# Altium footprint library PCB库2.PcbLib: 108 footprints (part 2 of 7)
Each footprint in its own frame and in the unit in brackets; x right, y up, seen from the top. Pads: shape width x height; smd on the part's side, far side on the other; paste and mask are expansions set on the pad; w line width, h text height; cw(c..) or ccw(c..) is an arc to the next point about the centre after c.
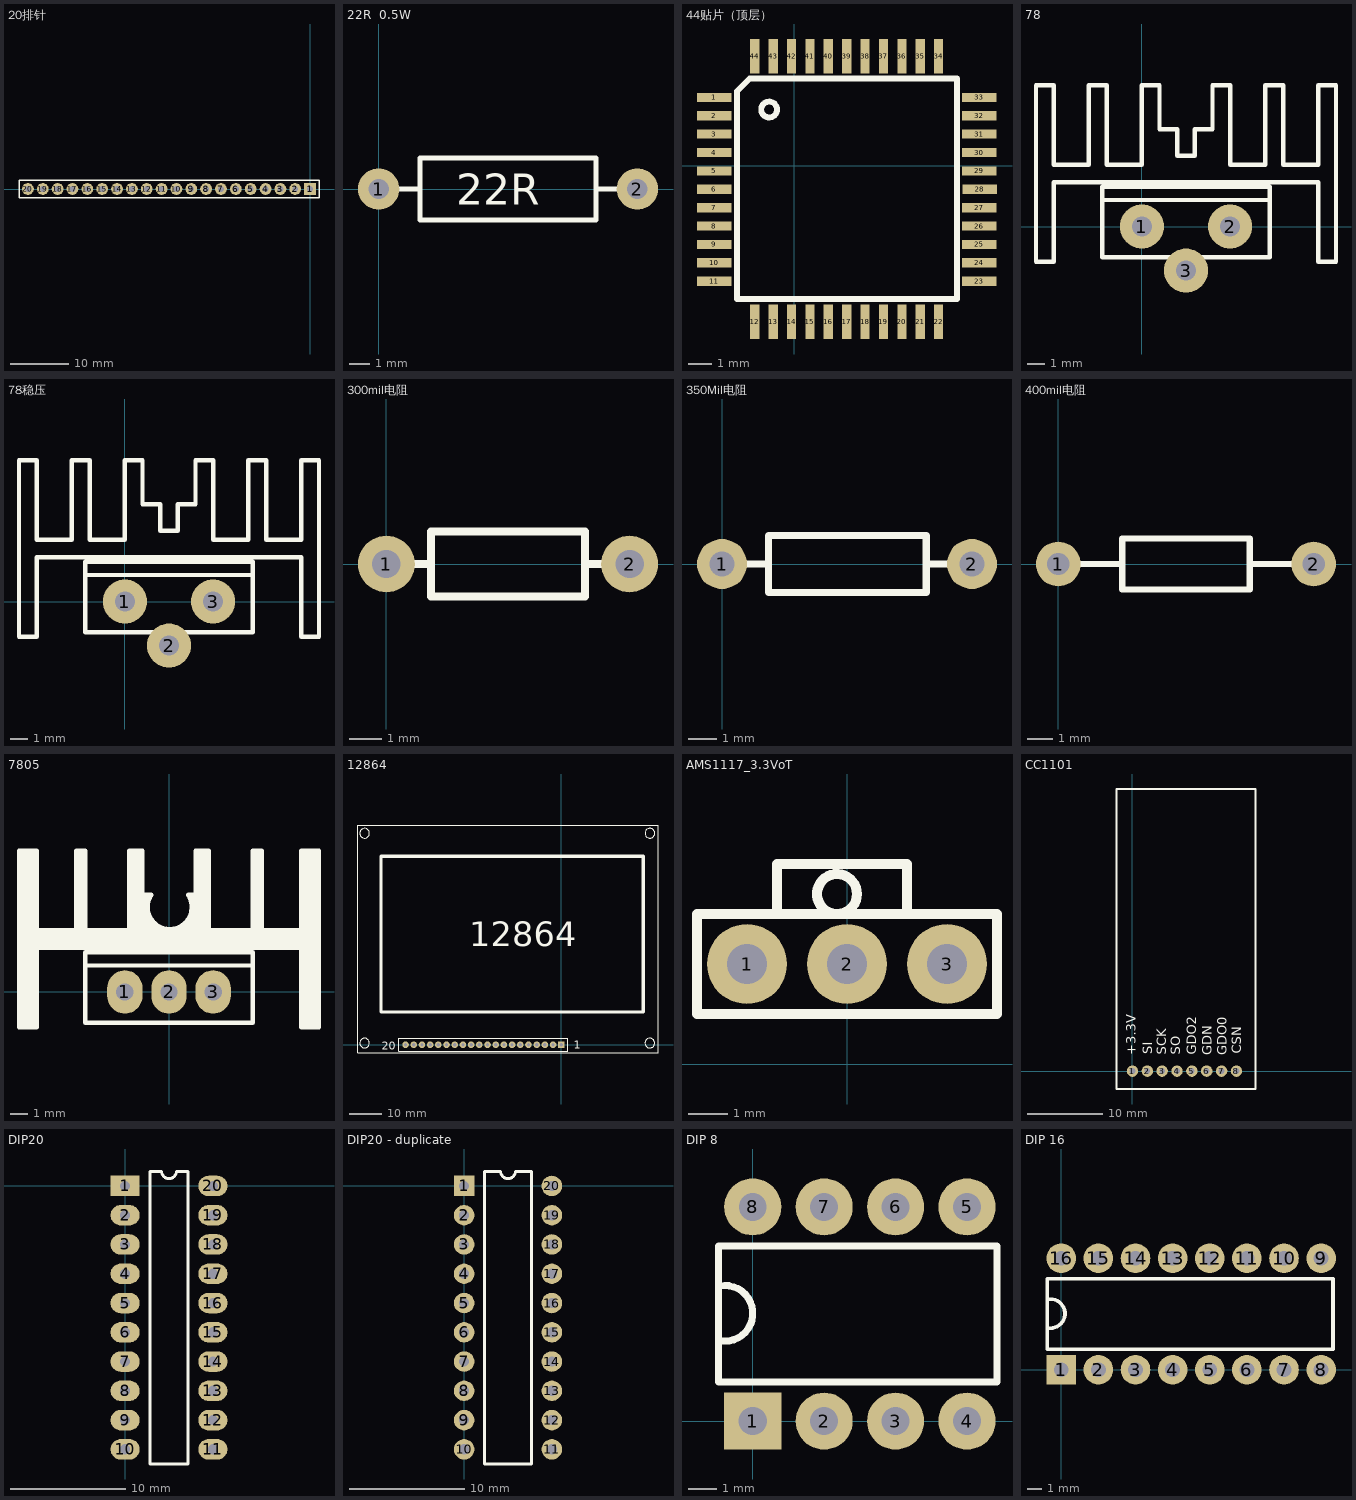
[diagram p1: the footprints below, top view; thin cyan lines are the x and y axes]

## 20排针 [mil]
pads (20):
  rect 80x80 hole 40: 1(0,0)
  round 80 hole 40: 2(-100,0) 3(-200,0) 4(-300,0) 5(-400,0) 6(-500,0) 7(-600,0) 8(-700,0) 9(-800,0) 10(-900,0) 11(-1000,0) 12(-1100,0) 13(-1200,0) 14(-1300,0) 15(-1400,0) 16(-1500,0) 17(-1600,0) 18(-1700,0) 19(-1800,0) 20(-1900,0)
Top Overlay:
  lines w10: -1960,-60 60,-60 60,60 -1960,60 -1960,-60

## 22R  0.5W [mil]
pads (2):
  round 80 hole 39.37: 1(0,0) 2(500,0)
Top Overlay:
  lines w10: 0,0 80,0 ; 420,0 500,0 ; 80,0 80,-60 420,-60 420,60 80,60 80,0
  text "22R" at 150,-30 h60

## 44贴片（顶层） [mm]
pads (44):
  rect 1.5x0.4 smd: 1(-3.492,2.971) 2(-3.492,2.171) 3(-3.492,1.371) 4(-3.492,0.571) 5(-3.492,-0.229) 6(-3.492,-1.029) 7(-3.492,-1.829) 8(-3.492,-2.629) 9(-3.492,-3.429) 10(-3.492,-4.229) 11(-3.492,-5.029) 23(8.039,-5.029) 24(8.039,-4.229) 25(8.039,-3.429) 26(8.039,-2.629) 27(8.039,-1.829) 28(8.064,-1.029) 29(8.039,-0.229) 30(8.039,0.571) 31(8.039,1.371) 32(8.039,2.171) 33(8.039,2.971)
  rect 0.4x1.5 smd: 12(-1.727,-6.795) 13(-0.927,-6.795) 14(-0.127,-6.795) 15(0.673,-6.795) 16(1.473,-6.795) 17(2.273,-6.795) 18(3.073,-6.795) 19(3.873,-6.795) 20(4.673,-6.795) 21(5.473,-6.795) 22(6.273,-6.795) 34(6.273,4.762) 35(5.473,4.762) 36(4.673,4.762) 37(3.873,4.762) 38(3.073,4.762) 39(2.273,4.762) 40(1.473,4.762) 41(0.673,4.762) 42(-0.127,4.762) 43(-0.927,4.762) 44(-1.727,4.762)
Top Overlay:
  circle w0.254: c-1.105,2.441 r0.346
  lines w0.254: -2.502,-5.798 -2.502,3.238 -1.943,3.797 -1.867,3.797 7.068,3.797 7.068,-5.798 6.947,-5.804 -2.496,-5.804

## 78 [mil]
pads (3):
  round 100 hole 45: 1(0,0) 2(200,0) 3(100,-100)
Top Overlay:
  lines w10: 290,60 -90,60 -90,90 ; -90,90 290,90 290,-70 -90,-70 -90,90 ; -240,-80 -240,320 -200,320 -200,140 -120,140 -120,320 -80,320 -80,140 0,140 0,320 40,320 40,220 80,220 80,160 120,160 120,220 160,220 160,320 200,320 200,140 280,140 280,320 320,320 320,140 400,140 400,320 440,320 440,-80 400,-80 400,100 -200,100 -200,-80 -240,-80

## 78稳压 [mil]
pads (3):
  round 100 hole 45: 1(0,0) 2(100,-100) 3(200,0)
Top Overlay:
  lines w10: 290,60 -90,60 -90,90 ; -90,90 -90,-70 290,-70 290,90 -90,90 ; -240,-80 -200,-80 -200,100 400,100 400,-80 440,-80 440,320 400,320 400,140 320,140 320,320 280,320 280,140 200,140 200,320 160,320 160,220 120,220 120,160 80,160 80,220 40,220 40,320 0,320 0,140 -80,140 -80,320 -120,320 -120,140 -200,140 -200,320 -240,320 -240,-80

## 300mil电阻 [mil]
pads (2):
  round 70 hole 35: 1(0,0) 2(300,0)
Top Overlay:
  lines w10: 0,0 55,0 ; 245,0 324,0 ; 55,0 55,-40 245,-40 245,40 55,40 55,0

## 350Mil电阻 [mil]
pads (2):
  round 70 hole 35: 1(0,0) 2(350,0)
Top Overlay:
  lines w10: 0,0 65,0 ; 286,0 350,0 ; 65,0 65,40 275,40 286,40 286,-40 275,-40 65,-40 65,0

## 400mil电阻 [mil]
pads (2):
  round 70 hole 35: 1(0,0) 2(400,0)
Top Overlay:
  lines w10: 0,0 100,0 ; 300,0 400,0 ; 100,0 100,-40 300,-40 300,40 100,40 100,0

## 7805 [mm]
pads (3):
  oval 2.032x2.5 hole 1: 1(-2.54,0) 2(0,0) 3(2.54,0)
Top Overlay:
  rectangle: -8.636,-2.032 -7.62,8.128
  rectangle: -5.334,2.54 -4.826,8.128
  rectangle: -2.286,2.54 -1.524,8.128
  rectangle: -7.874,2.54 8.128,3.556
  rectangle: 1.524,2.286 2.286,8.128
  rectangle: 4.826,2.54 5.334,8.128
  rectangle: 7.62,-2.032 8.636,8.128
  region: 0.762,3.81 1.27,4.572 1.27,5.588 1.778,5.588 1.778,3.302 -2.032,3.302 -2.032,5.588 -1.016,5.588 -1.27,5.08 -1.27,4.572 -1.016,4.318 -0.762,3.81 -0.254,3.556
  lines w0.254: 4.826,1.524 -4.826,1.524 -4.826,2.286 ; -4.826,2.286 -4.826,-1.778 4.826,-1.778 4.826,2.286 -4.826,2.286 ; -8.636,-2.032 -7.62,-2.032 -7.62,2.54 7.62,2.54 7.62,-2.032 8.636,-2.032 8.636,8.128 7.62,8.128 7.62,3.556 5.334,3.556 5.334,8.128 4.826,8.128 4.826,3.556 2.286,3.556 2.286,8.128 1.524,8.128 1.524,5.588 1.097,5.588 cw(c0.041,4.884) -1.016,5.588 -1.524,5.588 -1.524,8.128 -2.286,8.128 -2.286,3.556 -4.826,3.556 -4.826,8.128 -5.334,8.128 -5.334,3.556 -7.62,3.556 -7.62,8.128 -8.636,8.128 -8.636,-2.032

## 12864 [mil]
pads (20):
  rect 80x80 hole 40: 1(0,0)
  round 80 hole 40: 2(-100,0) 3(-200,0) 4(-300,0) 5(-400,0) 6(-500,0) 7(-600,0) 8(-700,0) 9(-800,0) 10(-900,0) 11(-1000,0) 12(-1100,0) 13(-1200,0) 14(-1300,0) 15(-1400,0) 16(-1500,0) 17(-1600,0) 18(-1700,0) 19(-1800,0) 20(-1900,0)
Top Overlay:
  circle w10: c1080.94,2580 r59.06
  circle w10: c-2399.06,2580 r59.06
  circle w10: c1080,20 r59.06
  circle w10: c-2400,20 r59.06
  lines w10: -2480,-100 -2400,-100 -1920,-100 1180,-100 1180,2680 -2480,2680 -2480,-20 -2480,-100 ; -1980,-80 -1960,-80 0,-80 80,-80 80,80 -1980,80 -1980,-80
  lines w40: -2200,400 1000,400 1000,2300 -2200,2300 -2200,400
  text "12864" at -1120,1200 h300
  text "1" at 150,-50 h100
  text "20" at -2190,-60 h100

## AMS1117_3.3VоƬ [mil]
pads (3):
  round 80 hole 40: 1(-100,100) 2(0,100) 3(100,100)
Top Overlay:
  circle w10: c-10,170 r20
  lines w10: -70,150 -70,200 60,200 60,150 ; -150,50 -150,150 150,150 150,50 -150,50

## CC1101 [mil]
pads (8):
  round 60 hole 30: 1(0,0) 2(78,0) 3(156,0) 4(234,0) 5(312,0) 6(390,0) 7(468,0) 8(546,0)
Top Overlay:
  lines w10: -83,-94 645.35,-94 645.35,1480.8 -83,1480.8 -83,-94
  text "+3.3V" at 17,84 h50
  text "SI" at 104,89 h50
  text "SCK" at 177,85 h50
  text "SO" at 252,86 h50
  text "GDO2" at 336,85 h50
  text "GDN" at 416,82 h50
  text "GDO0" at 494,83 h50
  text "CSN" at 571,91 h50

## DIP20 [mil]
pads (20):
  rect 100x70 hole 35: 1(0,0)
  oval 100x70 hole 35: 2(0,-100) 3(0,-200) 4(0,-300) 5(0,-400) 6(0,-500) 7(0,-600) 8(0,-700) 9(0,-800) 10(0,-900) 11(300,-900) 12(300,-800) 13(300,-700) 14(300,-600) 15(300,-500) 16(300,-400) 17(300,-300) 18(300,-200) 19(300,-100) 20(300,0)
Top Overlay:
  lines w10: 85,-950 215,-950 215,50 175,50 cw(c150,50) 125,50 85,50 85,-950

## DIP20 - duplicate [mil]
pads (20):
  rect 70x70 hole 35: 1(0,0)
  round 70 hole 35: 2(0,-100) 3(0,-200) 4(0,-300) 5(0,-400) 6(0,-500) 7(0,-600) 8(0,-700) 9(0,-800) 10(0,-900) 11(300,-900) 12(300,-800) 13(300,-700) 14(300,-600) 15(300,-500) 16(300,-400) 17(300,-300) 18(300,-200) 19(300,-100) 20(300,0)
Top Overlay:
  lines w10: 70,-950 230,-950 230,50 175,50 cw(c150,50) 125,50 70,50 70,-950

## DIP 8 [mil]
pads (8):
  rect 80x80 hole 39.37: 1(0,0)
  round 80 hole 39: 2(100,0) 3(200,0) 4(300,0) 5(300,300) 6(200,300) 7(100,300) 8(0,300)
Top Overlay:
  lines w10: -46.05,189.37 cw(c-39.02,150.98) -45.79,112.54 ; -48,55 -48,245 342,245 342,55 -48,55

## DIP 16 [mil]
pads (16):
  rect 80x80 hole 40: 1(0,0)
  round 80 hole 40: 2(100,0) 3(200,0) 4(300,0) 5(400,0) 6(500,0) 7(600,0) 8(700,0) 9(700,300) 10(600,300) 11(500,300) 12(400,300) 13(300,300) 14(200,300) 15(100,300) 16(0,300)
Top Overlay:
  lines w10: -36.05,189.37 cw(c-29.02,150.98) -35.79,112.54 ; -38,55 -38,245 732,245 732,55 -38,55